# Altium footprint library USB6B1.PcbLib: 1 footprints
Each footprint in its own frame and in the unit in brackets; x right, y up, seen from the top. Pads: shape width x height; smd on the part's side, far side on the other; paste and mask are expansions set on the pad; w line width, h text height; cw(c..) or ccw(c..) is an arc to the next point about the centre after c.
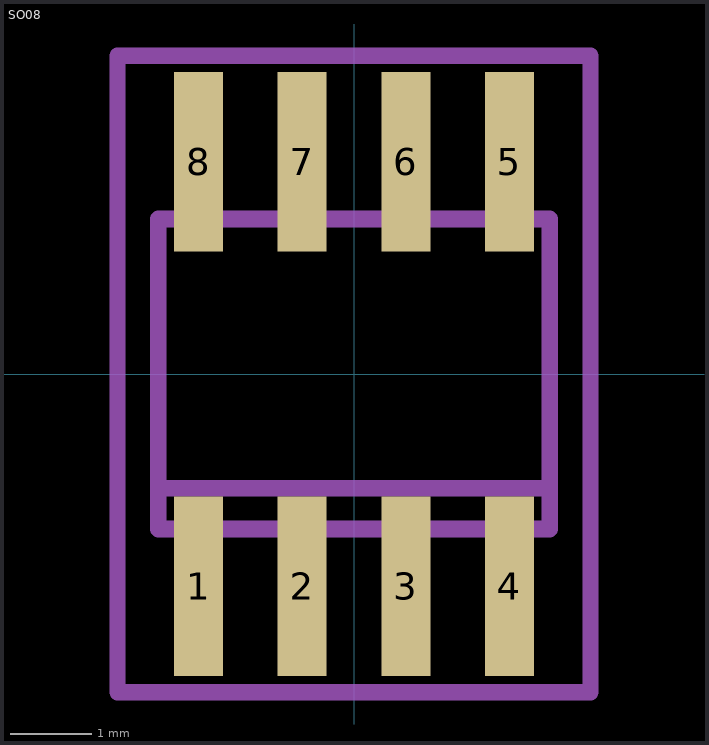
[diagram p0: the footprint, top view; thin cyan lines are the x and y axes]

## SO08 [mm]
pads (8):
  rect 0.6x2.2 smd: 1(-1.905,-2.6) 2(-0.635,-2.6) 3(0.635,-2.6) 4(1.905,-2.6) 5(1.905,2.6) 6(0.635,2.6) 7(-0.635,2.6) 8(-1.905,2.6)
Mechanical 13:
  region: -1.66,-3.102 -2.151,-3.102 -2.151,-2 -1.66,-2
  region: -0.39,-3.101 -0.88,-3.101 -0.88,-2 -0.39,-2
  region: 0.88,-3.106 0.391,-3.106 0.391,-2 0.88,-2
  region: 2.15,-3.101 1.66,-3.101 1.66,-2 2.15,-2
  region: 2.15,2.002 1.662,2.002 1.662,3.1 2.15,3.1
  region: 0.88,2.001 0.39,2.001 0.39,3.1 0.88,3.1
  region: -0.39,2.002 -0.881,2.002 -0.881,3.1 -0.39,3.1
  region: -1.66,2.001 -2.151,2.001 -2.151,3.1 -1.66,3.1
  lines w0.203: -2.4,-1.4 -2.4,-1.9 2.4,-1.9 2.4,-1.4 ; -2.4,-1.4 -2.4,1.9 2.4,1.9 2.4,-1.4 ; -2.4,-1.4 2.4,-1.4
Mechanical 15:
  lines w0.2: -2.9,-3.9 2.9,-3.9 2.9,3.9 -2.9,3.9 -2.9,-3.9